# EAGLE library part BJT-DUAL-COMP (library CalvEngIO-DiscreteSemi)
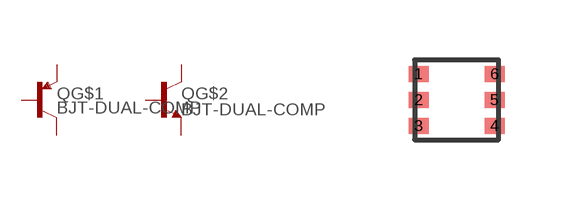
[diagram p2: symbol with the pads of MBT3946DW1T1G; footprint MBT3946DW1T1G]

Designator prefix Q; gates G$1=PNP G$2=NPN

## BJT-DUAL-COMP  [MBT3946DW1T1G]
1  G$2:E  pas
2  G$2:B  pas
3  G$1:C  pas
4  G$1:E  pas
5  G$1:B  pas
6  G$2:C  pas

## Footprint MBT3946DW1T1G (pad centres in mm)
smd 0.5 x 0.4: 1 -0.95,0.65; 2 -0.95,0; 3 -0.95,-0.65; 4 0.95,-0.65; 5 0.95,0; 6 0.95,0.65